# Altium footprint library common.PcbLib: 6 footprints
Each footprint in its own frame and in the unit in brackets; x right, y up, seen from the top. Pads: shape width x height; smd on the part's side, far side on the other; paste and mask are expansions set on the pad; w line width, h text height; cw(c..) or ccw(c..) is an arc to the next point about the centre after c.
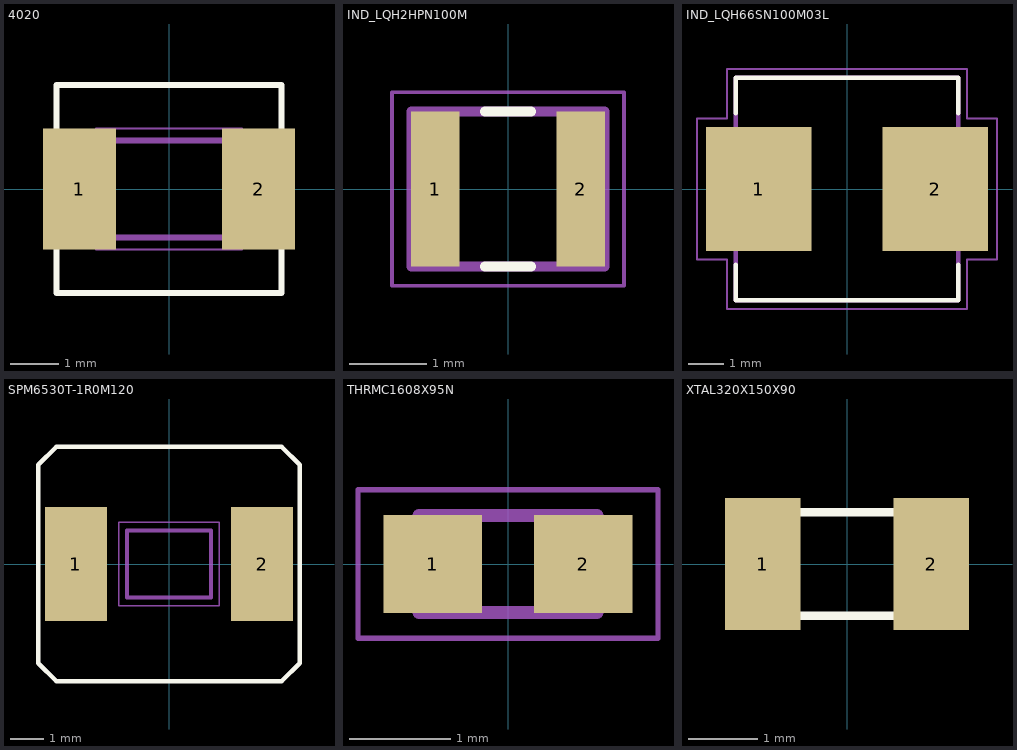
[diagram p0: the footprints below, top view; thin cyan lines are the x and y axes]

## 4020 [mm]
pads (2):
  rect 1.5x2.5 smd: 1(-1.85,0) 2(1.85,0)
Top Overlay:
  lines w0.127: -2.325,-2.15 2.325,-2.15 2.325,2.15 -2.325,2.15 -2.325,-2.15
Mechanical 13:
  lines w0.127: -1.25,-1 -1.25,1 1.25,1 1.25,-1 -1.25,-1
Mechanical 15:
  lines w0.05: -1.5,-1.25 -1.5,1.25 1.5,1.25 1.5,-1.25 -1.5,-1.25

## IND_LQH2HPN100M [mm]
pads (2):
  rect 0.625x2 smd: 1(-0.937,0) 2(0.937,0)
Top Overlay:
  lines w0.127: -0.3,-1 0.3,-1 ; -0.3,1 0.3,1
Mechanical 13:
  lines w0.127: -1.25,-1 1.25,-1 1.25,1 -1.25,1 -1.25,-1
Mechanical 15:
  lines w0.05: -1.5,-1.25 1.5,-1.25 1.5,1.25 -1.5,1.25 -1.5,-1.25
3D body "LQH2HPN100MJRL--3DModel-STEP-46669.STEP": height 1.2, standoff 0, extent -1.25,-1 1.25,1

## IND_LQH66SN100M03L [mm]
pads (2):
  rect 3x3.5 smd: 1(-2.5,0) 2(2.5,0)
Top Overlay:
  lines w0.127: -3.15,-2.15 -3.15,-3.15 3.15,-3.15 3.15,-2.15 ; -3.15,2.15 -3.15,3.15 3.15,3.15 3.15,2.15
Mechanical 13:
  lines w0.127: -3.15,-3.15 3.15,-3.15 3.15,3.15 -3.15,3.15 -3.15,-3.15
Mechanical 15:
  lines w0.05: -4.25,-2 -4.25,2 -3.4,2 -3.4,3.4 3.4,3.4 3.4,2 4.25,2 4.25,-2 3.4,-2 3.4,-3.4 -3.4,-3.4 -3.4,-2 -4.25,-2
3D body "step_temp.STEP": height 5, standoff 0, extent -3.15,-3.15 3.15,3.15

## SPM6530T-1R0M120 [mm]
pads (2):
  rect 1.85x3.4 smd: 1(-2.775,0) 2(2.775,0)
Top Overlay:
  lines w0.127: -3.9,-2.96 -3.36,-3.5 3.36,-3.5 3.9,-2.96 3.9,2.96 3.36,3.5 -3.36,3.5 -3.9,2.96 -3.9,-2.96
Mechanical 13:
  lines w0.127: -1.25,-1 1.25,-1 1.25,1 -1.25,1 -1.25,-1
Mechanical 15:
  lines w0.05: -1.5,-1.25 1.5,-1.25 1.5,1.25 -1.5,1.25 -1.5,-1.25
3D body "spm6530.step": height 3, standoff -0.15, extent -3.55,-3.25 3.55,3.25

## THRMC1608X95N [mm]
pads (2):
  rect 0.98x0.97 smd: 1(-0.745,0) 2(0.745,0)
Mechanical 13:
  lines w0.127: -0.88,-0.48 0.88,-0.48 0.88,0.48 -0.88,0.48 -0.88,-0.48
Mechanical 15:
  lines w0.05: -1.485,-0.735 1.485,-0.735 1.485,0.735 -1.485,0.735 -1.485,-0.735
3D body "PRF18AR471QB5RB.STEP": height 0.8, standoff 0, extent -0.809,-0.473 0.791,0.477

## XTAL320X150X90 [mil]
pads (2):
  rect 43x75 smd: 1(-48,0) 2(48,0)
Top Overlay:
  lines w5: -63,-29.5 63,-29.5 63,29.5 -63,29.5 -63,-29.5
3D body "ABS07-32.768KHZ-9-T--3DModel-STEP-400430.STEP": height 35, standoff -0.01, extent -63,-29.5 63,29.5